# Altium footprint library SM_LED_1206_Reverse.PcbLib: 1 footprints
Each footprint in its own frame and in the unit in brackets; x right, y up, seen from the top. Pads: shape width x height; smd on the part's side, far side on the other; paste and mask are expansions set on the pad; w line width, h text height; cw(c..) or ccw(c..) is an arc to the next point about the centre after c.
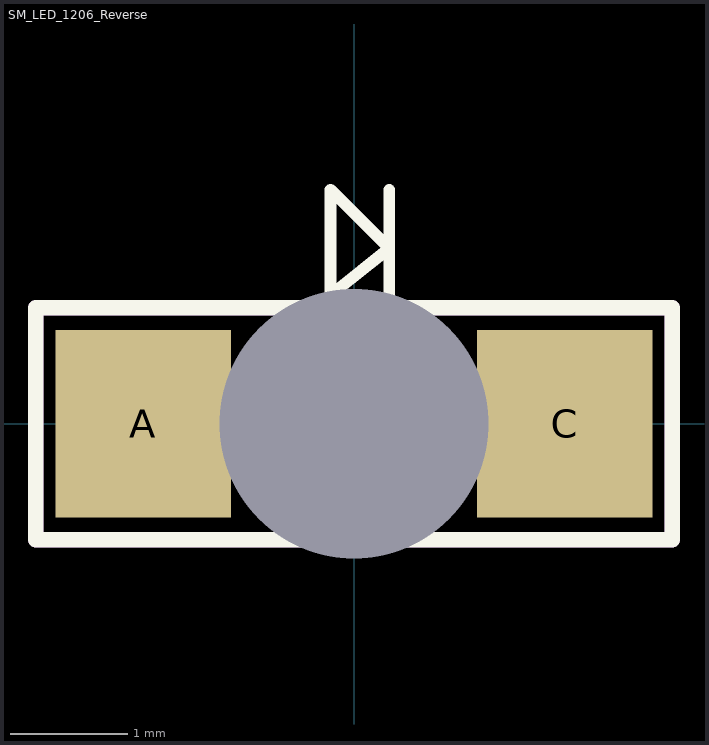
[diagram p0: the footprint, top view; thin cyan lines are the x and y axes]

## SM_LED_1206_Reverse [mm] "1206, Reverse Mount LED"
pads (3):
  round 0 hole 2.3 unplated: 0(0,0)
  rect 1.499x1.6 smd: A(-1.8,0) C(1.8,0)
Top Overlay:
  lines w0.1: 0.3,1.1 0.3,1.5 ; 0.3,1.5 -0.2,2 -0.2,1.1 0.3,1.5 ; 0.3,1.5 0.3,2 0.3,1.5
  lines w0.13: -2.718,-0.991 0.751,-0.991 2.718,-0.991 2.718,0.991 -2.718,0.991 -2.718,-0.991
Mechanical 2:
  lines w0.13: -2.718,-0.991 2.718,-0.991 2.718,0.991 -2.718,0.991 -2.718,-0.991
3D body "LC230.STEP": height 0.26, standoff -0.84, extent -1.6,-0.8 1.6,0.8